# Altium schematic symbol library Ams11a.SchLib: 1 symbol
Pins are listed as number, name and electrical type; pins without a type are passive.

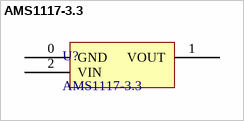
[diagram p0: symbol AMS1117-3.3]

## AMS1117-3.3
designator U?
1A 60dB@(120Hz) Fixed 3.3V Positive 18V SOT-223 Linear Voltage Regulators (LDO) ROHS; Manufacturer: UMW(Youtai Semiconductor Co., Ltd.); Supplier: DigiKey; Supplier Part Number: 4518-AMS1117-3.3CT-ND; Manufacturer Part Number: AMS1117-3.3; Category: LDO Voltage Regulators; Stock: 6584; Pricing: 1=0,29, 10=0,2, 25=0,1772, 100=0,1524, 250=0,14044, 500=0,13324, 1000=0,12732 (USD); Supplier 1: DigiKey; Supplier Part Number 1: 4518-AMS1117-3.3DKR-ND
pins: 0 GND (power), 1 VOUT (power), 2 VIN (power)